# Altium footprint library PcbLib1.PcbLib: 36 footprints (part 2 of 3)
Each footprint in its own frame and in the unit in brackets; x right, y up, seen from the top. Pads: shape width x height; smd on the part's side, far side on the other; paste and mask are expansions set on the pad; w line width, h text height; cw(c..) or ccw(c..) is an arc to the next point about the centre after c.
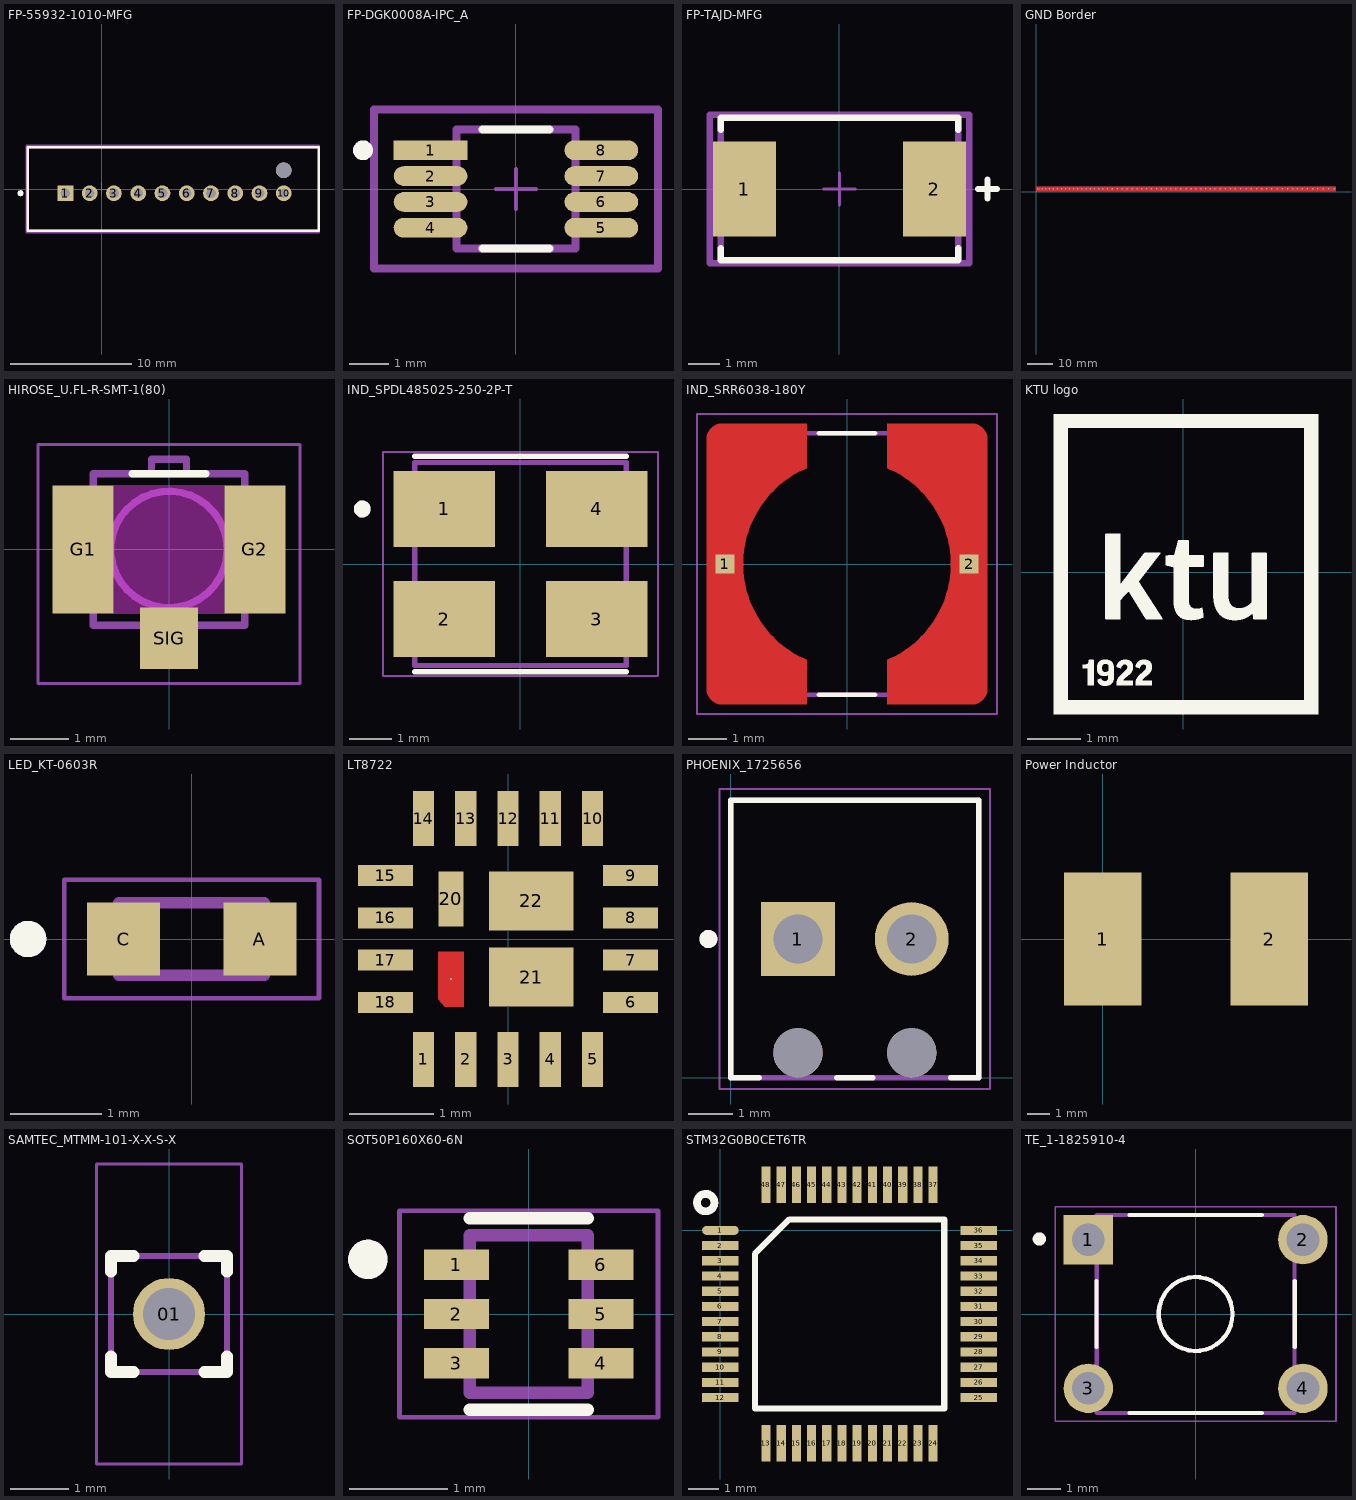
[diagram p1: the footprints below, top view; thin cyan lines are the x and y axes]

## FP-55932-1010-MFG [mm]
pads (11):
  rect 1.3x1.3 hole 0.8 paste-2539.97 mask+0: 1(-3,-0.35)
  round 1.3 hole 0.8 paste-2539.97 mask+0: 2(-1,-0.35) 3(1,-0.35) 4(3,-0.35) 5(5,-0.35) 6(7,-0.35) 7(9,-0.35) 8(11,-0.35) 9(13,-0.35) 10(15,-0.35)
  round 1.3 hole 1.3 unplated paste-2539.97 mask+0: ""(15,1.55)
Top Overlay:
  circle w0.25: c-6.7,-0.35 r0.125
  lines w0.2: -6.1,-3.45 -6.1,3.45 17.9,3.45 17.9,-3.45 -6.1,-3.45
Top 3D Body:
  lines w0.2: -6.1,-3.45 -6.1,3.45 17.907,3.45 17.907,-3.45 -6.1,-3.45
Top Courtyard:
  lines w0.2: -6.2,-3.55 -6.2,3.55 17.907,3.55 17.907,-3.55 -6.2,-3.55
Top Assembly:
  lines w0.2: -6.2,-3.55 -6.2,3.55 17.907,3.55 17.907,-3.55 -6.2,-3.55
  text ".Designator" at 0,0.188 h1
Top Component Center:
  lines w0.1: -0.5,0 0.5,0 ; 0,-0.5 0,0.5

## FP-DGK0008A-IPC_A [mm]
pads (8):
  rect 1.857x0.498 smd paste+0 mask+0: 1(-2.151,0.975)
  rrect100% 1.857x0.498 smd paste+0 mask+0: 2(-2.151,0.325) 3(-2.151,-0.325) 4(-2.151,-0.975) 5(2.151,-0.975) 6(2.151,-0.325) 7(2.151,0.325) 8(2.151,0.975)
Top Overlay:
  circle w0.25: c-3.854,0.975 r0.125
  lines w0.2: -0.848,-1.5 0.848,-1.5 ; -0.848,1.5 0.848,1.5
Top 3D Body:
  lines w0.2: -1.5,-1.5 -1.5,1.5 1.5,1.5 1.5,-1.5 -1.5,-1.5
Top Courtyard:
  lines w0.2: -3.579,-2 -3.579,2 3.579,2 3.579,-2 -3.579,-2
Top Assembly:
  lines w0.2: -3.579,-2 -3.579,2 3.579,2 3.579,-2 -3.579,-2
  text ".Designator" at 0,0.188 h1
Top Component Center:
  lines w0.1: -0.5,0 0.5,0 ; 0,-0.5 0,0.5
3D body "IC_Texas_Instruments_TCA9803DGKR_eec.STEP": height 0.25, standoff 0, extent -3.579,-2 3.579,2

## FP-TAJD-MFG [mm]
pads (2):
  rect 2x3 smd paste+0 mask+0: 1(-3,0) 2(3,0)
Top Overlay:
  lines w0.2: -3.75,-1.875 -3.75,-2.25 3.75,-2.25 3.75,-1.875 ; -3.75,1.875 -3.75,2.25 3.75,2.25 3.75,1.875 ; 4.375,0 4.975,0 ; 4.675,-0.3 4.675,0.3
Top 3D Body:
  lines w0.2: -3.75,-2.25 3.75,-2.25 3.75,2.25 -3.75,2.25 -3.75,-2.25
Top Courtyard:
  lines w0.2: -4.1,-2.35 4.1,-2.35 4.1,2.35 -4.1,2.35 -4.1,-2.35
Top Assembly:
  lines w0.2: -4.1,-2.35 4.1,-2.35 4.1,2.35 -4.1,2.35 -4.1,-2.35
  text ".Designator" at 0,0 h1
Top Component Center:
  lines w0.1: -0.5,0 0.5,0 ; 0,-0.5 0,0.5
3D body "Cap_AVX_TAJD108K004RNJ_eec.STEP": height 0.25, standoff 0, extent -4.1,-2.35 4.1,2.35

## GND Border [mil]
pads (1):
  rect 5x5 smd: 0(60,40)
via 30,40 diameter 23.62 hole 11.81
via 95,40 diameter 23.62 hole 11.81
via 155,40 diameter 23.62 hole 11.81
via 210,40 diameter 23.62 hole 11.81
via 270,40 diameter 23.62 hole 11.81
via 335,40 diameter 23.62 hole 11.81
via 400,40 diameter 23.62 hole 11.81
via 465,40 diameter 23.62 hole 11.81
via 525,40 diameter 23.62 hole 11.81
via 590,40 diameter 23.62 hole 11.81
via 655,40 diameter 23.62 hole 11.81
via 720,40 diameter 23.62 hole 11.81
via 785,40 diameter 23.62 hole 11.81
via 850,40 diameter 23.62 hole 11.81
via 915,40 diameter 23.62 hole 11.81
via 985,40 diameter 23.62 hole 11.81
via 1050,40 diameter 23.62 hole 11.81
via 1120,40 diameter 23.62 hole 11.81
via 1195,40 diameter 23.62 hole 11.81
via 1275,40 diameter 23.62 hole 11.81
via 1350,40 diameter 23.62 hole 11.81
via 1430,40 diameter 23.62 hole 11.81
via 1510,40 diameter 23.62 hole 11.81
via 1585,40 diameter 23.62 hole 11.81
via 1660,40 diameter 23.62 hole 11.81
via 1730,40 diameter 23.62 hole 11.81
via 1810,40 diameter 23.62 hole 11.81
via 1890,40 diameter 23.62 hole 11.81
via 1965,40 diameter 23.62 hole 11.81
via 2040,40 diameter 23.62 hole 11.81
via 2115,40 diameter 23.62 hole 11.81
via 2195,40 diameter 23.62 hole 11.81
via 2270,40 diameter 23.62 hole 11.81
via 2355,40 diameter 23.62 hole 11.81
via 2435,40 diameter 23.62 hole 11.81
via 2505,40 diameter 23.62 hole 11.81
via 2585,40 diameter 23.62 hole 11.81
via 2660,40 diameter 23.62 hole 11.81
via 2730,40 diameter 23.62 hole 11.81
via 2805,40 diameter 23.62 hole 11.81
via 2890,40 diameter 23.62 hole 11.81
via 2970,40 diameter 23.62 hole 11.81
via 3050,40 diameter 23.62 hole 11.81
via 3125,40 diameter 23.62 hole 11.81
via 3210,40 diameter 23.62 hole 11.81
via 3295,40 diameter 23.62 hole 11.81
via 3375,40 diameter 23.62 hole 11.81
via 3460,40 diameter 23.62 hole 11.81
via 3540,40 diameter 23.62 hole 11.81
via 3615,40 diameter 23.62 hole 11.81
via 3695,40 diameter 23.62 hole 11.81
via 3780,40 diameter 23.62 hole 11.81
via 3865,40 diameter 23.62 hole 11.81
via 3945,40 diameter 23.62 hole 11.81
via 4030,40 diameter 23.62 hole 11.81
via 4100,40 diameter 23.62 hole 11.81
via 4175,40 diameter 23.62 hole 11.81
via 4255,40 diameter 23.62 hole 11.81
via 4340,40 diameter 23.62 hole 11.81
via 4415,40 diameter 23.62 hole 11.81
via 4505,40 diameter 23.62 hole 11.81
via 4590,40 diameter 23.62 hole 11.81
via 4675,40 diameter 23.62 hole 11.81
Top Layer:
  rectangle: 0,0 4704.72,78.74
Bottom Layer:
  rectangle: 0,0 4704.72,78.74

## HIROSE_U.FL-R-SMT-1(80) [mm]
height 1.45
pads (3):
  rect 1.05x2.2 smd paste-2: G1(-1.475,0) G2(1.475,0)
  rect 1x1.05 smd paste-0.1: SIG(0,-1.525)
Top Overlay:
  lines w0.127: -0.63,1.3 0.63,1.3
Top Paste:
  region: 1.95,-1 1.05,-1 1.05,1 1.95,1
  region: -1.05,-1 -1.95,-1 -1.95,1 -1.05,1
Keep-Out Layer:
  region: 0.95,-1.1 0.5,-1.1 0.5,-1 -0.5,-1 -0.5,-1.1 -0.95,-1.1 -0.95,1.1 0.95,1.1
Mechanical 13:
  circle w0.127: c0,0 r1
  lines w0.127: -0.3,1.3 -0.3,1.55 0.3,1.55 0.3,1.3 ; -0.3,1.3 0.3,1.3 ; -0.3,1.3 -1.3,1.3 -1.3,-1.3 1.3,-1.3 1.3,1.3 0.3,1.3
Mechanical 15:
  lines w0.05: -2.25,-2.3 -2.25,1.8 2.25,1.8 2.25,-2.3 -2.25,-2.3
3D body "step_temp.STEP": height 22.5, standoff 21.25, extent -1.5,-1.576 1.5,1.524

## IND_SPDL485025-250-2P-T [mm]
height 2.5
pads (4):
  rect 2.4x1.8 smd: 1(-1.8,1.3) 2(-1.8,-1.3) 3(1.8,-1.3) 4(1.8,1.3)
Top Overlay:
  circle w0.2: c-3.74,1.3 r0.1
  lines w0.127: -2.5,-2.55 2.5,-2.55 ; -2.5,2.55 2.5,2.55
Mechanical 13:
  circle w0.2: c-3.74,1.3 r0.1
  lines w0.127: -2.5,-2.4 -2.5,2.4 2.5,2.4 2.5,-2.4 -2.5,-2.4
Mechanical 15:
  lines w0.05: -3.25,-2.65 3.25,-2.65 3.25,2.65 -3.25,2.65 -3.25,-2.65

## IND_SRR6038-180Y [mm]
height 4
pads (2):
  rect 0.5x0.5 smd paste-1 mask+0: 1(-3.175,0) 2(3.175,0)
Top Layer:
  region: 3.271,3.649 3.292,3.648 3.313,3.645 3.333,3.641 3.354,3.636 3.374,3.63 3.393,3.623 3.413,3.615 3.432,3.606 3.45,3.596 3.468,3.585 3.485,3.574 3.502,3.561 3.518,3.547 3.533,3.533 3.547,3.518 3.561,3.502 3.574,3.485 3.585,3.468 3.596,3.45 3.606,3.432 3.615,3.413 3.623,3.393 3.63,3.374 3.636,3.354 3.641,3.333 3.645,3.313 3.648,3.292 3.649,3.271 3.65,3.25 3.65,-3.25 3.649,-3.271 3.648,-3.292 3.645,-3.313 3.641,-3.333 3.636,-3.354 3.63,-3.374 3.623,-3.393 3.615,-3.413 3.606,-3.432 3.596,-3.45 3.585,-3.468 3.574,-3.485 3.561,-3.502 3.547,-3.518 3.533,-3.533 3.518,-3.547 3.502,-3.561 3.485,-3.574 3.468,-3.585 3.45,-3.596 3.432,-3.606 3.413,-3.615 3.393,-3.623 3.374,-3.63 3.354,-3.636 3.333,-3.641 3.313,-3.645 3.292,-3.648 3.271,-3.649 3.25,-3.65 1.05,-3.65 1.05,-2.488 1.155,-2.441 1.249,-2.395 1.341,-2.345 1.431,-2.291 1.519,-2.234 1.605,-2.173 1.688,-2.109 1.769,-2.042 1.847,-1.972 1.922,-1.898 1.994,-1.822 2.064,-1.743 2.13,-1.662 2.193,-1.578 2.253,-1.491 2.309,-1.403 2.361,-1.312 2.411,-1.219 2.456,-1.125 2.498,-1.028 2.536,-0.93 2.57,-0.831 2.6,-0.731 2.627,-0.629 2.649,-0.526 2.667,-0.423 2.682,-0.319 2.692,-0.214 2.698,-0.11 2.7,0 2.698,0.11 2.692,0.214 2.682,0.319 2.667,0.423 2.649,0.526 2.627,0.629 2.6,0.731 2.57,0.831 2.536,0.93 2.498,1.028 2.456,1.125 2.411,1.219 2.361,1.312 2.309,1.403 2.253,1.491 2.193,1.578 2.13,1.662 2.064,1.743 1.994,1.822 1.922,1.898 1.847,1.972 1.769,2.042 1.688,2.109 1.605,2.173 1.519,2.234 1.431,2.291 1.341,2.345 1.249,2.395 1.155,2.441 1.05,2.488 1.05,3.65 3.25,3.65
  region: -1.05,2.488 -1.155,2.441 -1.249,2.395 -1.341,2.345 -1.431,2.291 -1.519,2.234 -1.605,2.173 -1.688,2.109 -1.769,2.042 -1.847,1.972 -1.922,1.898 -1.994,1.822 -2.064,1.743 -2.13,1.662 -2.193,1.578 -2.253,1.491 -2.309,1.403 -2.361,1.312 -2.411,1.219 -2.456,1.125 -2.498,1.028 -2.536,0.93 -2.57,0.831 -2.6,0.731 -2.627,0.629 -2.649,0.526 -2.667,0.423 -2.682,0.319 -2.692,0.214 -2.698,0.11 -2.7,0 -2.698,-0.11 -2.692,-0.214 -2.682,-0.319 -2.667,-0.423 -2.649,-0.526 -2.627,-0.629 -2.6,-0.731 -2.57,-0.831 -2.536,-0.93 -2.498,-1.028 -2.456,-1.125 -2.411,-1.219 -2.361,-1.312 -2.309,-1.403 -2.253,-1.491 -2.193,-1.578 -2.13,-1.662 -2.064,-1.743 -1.994,-1.822 -1.922,-1.898 -1.847,-1.972 -1.769,-2.042 -1.688,-2.109 -1.605,-2.173 -1.519,-2.234 -1.431,-2.291 -1.341,-2.345 -1.249,-2.395 -1.155,-2.441 -1.05,-2.488 -1.05,-3.65 -3.25,-3.65 -3.271,-3.649 -3.292,-3.648 -3.313,-3.645 -3.333,-3.641 -3.354,-3.636 -3.374,-3.63 -3.393,-3.623 -3.413,-3.615 -3.432,-3.606 -3.45,-3.596 -3.468,-3.585 -3.485,-3.574 -3.502,-3.561 -3.518,-3.547 -3.533,-3.533 -3.547,-3.518 -3.561,-3.502 -3.574,-3.485 -3.585,-3.468 -3.596,-3.45 -3.606,-3.432 -3.615,-3.413 -3.623,-3.393 -3.63,-3.374 -3.636,-3.354 -3.641,-3.333 -3.645,-3.313 -3.648,-3.292 -3.649,-3.271 -3.65,-3.25 -3.65,3.25 -3.649,3.271 -3.648,3.292 -3.645,3.313 -3.641,3.333 -3.636,3.354 -3.63,3.374 -3.623,3.393 -3.615,3.413 -3.606,3.432 -3.596,3.45 -3.585,3.468 -3.574,3.485 -3.561,3.502 -3.547,3.518 -3.533,3.533 -3.518,3.547 -3.502,3.561 -3.485,3.574 -3.468,3.585 -3.45,3.596 -3.432,3.606 -3.413,3.615 -3.393,3.623 -3.374,3.63 -3.354,3.636 -3.333,3.641 -3.313,3.645 -3.292,3.648 -3.271,3.649 -3.25,3.65 -1.05,3.65
Top Overlay:
  lines w0.127: -0.73,-3.4 0.73,-3.4 ; -0.73,3.4 0.73,3.4
Top Paste:
  drawing of 2 lines, arcs and shapes, not listed
Top Solder:
  drawing of 2 lines, arcs and shapes, not listed
Mechanical 13:
  lines w0.127: -3.4,-3.4 -3.4,3.4 3.4,3.4 3.4,-3.4 -3.4,-3.4
Mechanical 15:
  lines w0.05: -3.9,-3.9 -3.9,3.9 3.9,3.9 3.9,-3.9 -3.9,-3.9
3D body "step_temp.STEP": height 4, standoff 0, extent -3.4,-3.4 3.4,3.4

## KTU logo [mm]
Top Overlay:
  drawing of 8 lines, arcs and shapes, not listed

## LED_KT-0603R [mm]
height 0.65
pads (2):
  rect 0.8x0.8 smd: A(0.75,0) C(-0.75,0)
Top Overlay:
  circle w0.2: c-1.8,0 r0.1
Mechanical 13:
  circle w0.2: c-1.8,0 r0.1
  lines w0.127: -0.8,-0.4 0.8,-0.4 0.8,0.4 -0.8,0.4 -0.8,-0.4
Mechanical 15:
  lines w0.05: -1.4,-0.65 1.4,-0.65 1.4,0.65 -1.4,0.65 -1.4,-0.65
3D body "step_temp.STEP": height 0.65, standoff 0, extent -0.8,-0.4 0.8,0.4

## LT8722 [mm]
pads (22):
  rect 0.25x0.65 smd mask+0: 1(-1,-1.425) 2(-0.5,-1.425) 3(0,-1.425) 4(0.5,-1.425) 5(1,-1.425) 10(1,1.425) 11(0.5,1.425) 12(0,1.425) 13(-0.5,1.425) 14(-1,1.425)
  rect 0.65x0.25 smd mask+0: 6(1.45,-0.75) 7(1.45,-0.25) 8(1.45,0.25) 9(1.45,0.75) 15(-1.45,0.75) 16(-1.45,0.25) 17(-1.45,-0.25) 18(-1.45,-0.75)
  round 0.025 smd mask+0: 19(-0.675,-0.475)
  rect 0.3x0.65 smd mask+0: 20(-0.675,0.475)
  rect 1x0.7 smd mask+0: 21(0.275,-0.45) 22(0.275,0.45)
Top Layer:
  region: -0.825,-0.15 -0.525,-0.15 -0.525,-0.8 -0.75,-0.8 -0.825,-0.711

## PHOENIX_1725656 [mm]
height 8.65
pads (4):
  rect 1.65x1.65 / inner round 1.65 / far side rect 1.65x1.65 hole 1.1: 1(1.5,3.1)
  round 1.65 hole 1.1: 2(4.04,3.1)
  round 1.1 hole 1.1 unplated: ""(1.5,0.56) ""(4.04,0.56)
Top Overlay:
  circle w0.2: c-0.5,3.1 r0.1
  lines w0.127: 0.63,0 0,0 0,6.2 5.54,6.2 5.54,0 4.91,0 ; 2.37,0 3.17,0
Mechanical 13:
  circle w0.2: c-0.5,3.1 r0.1
  lines w0.127: 0,0 0,6.2 5.54,6.2 5.54,0 0,0
Mechanical 15:
  lines w0.05: -0.25,-0.25 -0.25,6.45 5.79,6.45 5.79,-0.25 -0.25,-0.25
3D body "step_temp.STEP": height 8.65, standoff -3.7, extent 0,0 5.54,6.2

## Power Inductor [mm] "Universal_Pad_Size"
pads (2):
  rect 3.5x6 smd mask+0: 1(0,0) 2(7.5,0)

## SAMTEC_MTMM-101-X-X-S-X [mm]
pads (1):
  round 1.24 hole 0.89: 01(0,0)
Top Overlay:
  lines w0.2: -1,-0.73 -1,-1 -0.605,-1 ; -1,0.73 -1,1 -0.605,1 ; 0.605,-1 1,-1 1,-0.73 ; 0.605,1 1,1 1,0.73
Top Paste:
  region: 0.255,0.38 0.815,0.38 0.815,-0.38 0.255,-0.38 0.255,-2.335 -0.255,-2.335 -0.255,-0.38 -0.815,-0.38 -0.815,0.38 -0.255,0.38 -0.255,2.335 0.255,2.335
Mechanical 13:
  lines w0.1: -1,-1 1,-1 1,1 -1,1 -1,-1
Mechanical 15:
  lines w0.05: -1.25,-2.585 1.25,-2.585 1.25,2.585 -1.25,2.585 -1.25,-2.585

## SOT50P160X60-6N [mm]
pads (6):
  rect 0.66x0.31 smd: 1(-0.735,0.5) 2(-0.735,0) 3(-0.735,-0.5) 4(0.735,-0.5) 5(0.735,0) 6(0.735,0.5)
Top Overlay:
  circle w0.2: c-1.635,0.555 r0.1
  lines w0.127: -0.6,-0.975 0.6,-0.975 ; -0.6,0.975 0.6,0.975
Mechanical 13:
  circle w0.2: c-1.635,0.555 r0.1
  lines w0.127: -0.6,-0.8 0.6,-0.8 0.6,0.8 -0.6,0.8 -0.6,-0.8
Mechanical 15:
  lines w0.05: -1.315,-1.05 -1.315,1.05 1.315,1.05 1.315,-1.05 -1.315,-1.05

## STM32G0B0CET6TR [mm]
pads (48):
  oval 1.2x0.3 smd: 1(0,0)
  rect 1.2x0.3 smd: 2(0,-0.5) 3(0,-1) 4(0,-1.5) 5(0,-2) 6(0,-2.5) 7(0,-3) 8(0,-3.5) 9(0,-4) 10(0,-4.5) 11(0,-5) 12(0,-5.5) 25(8.5,-5.5) 26(8.5,-5) 27(8.5,-4.5) 28(8.5,-4) 29(8.5,-3.5) 30(8.5,-3) 31(8.5,-2.5) 32(8.5,-2) 33(8.5,-1.5) 34(8.5,-1) 35(8.5,-0.5) 36(8.5,0)
  rect 0.3x1.2 smd: 13(1.5,-7) 14(2,-7) 15(2.5,-7) 16(3,-7) 17(3.5,-7) 18(4,-7) 19(4.5,-7) 20(5,-7) 21(5.5,-7) 22(6,-7) 23(6.5,-7) 24(7,-7) 37(7,1.5) 38(6.5,1.5) 39(6,1.5) 40(5.5,1.5) 41(5,1.5) 42(4.5,1.5) 43(4,1.5) 44(3.5,1.5) 45(3,1.5) 46(2.5,1.5) 47(2,1.5) 48(1.5,1.5)
Top Overlay:
  lines w0.2: 1.135,-5.865 7.365,-5.865 7.365,0.365 2.27,0.365 1.135,-0.77 1.135,-5.865
  lines w0.254: -0.199,0.867 cw(c-0.483,0.914) -0.195,0.914

## TE_1-1825910-4 [mm]
pads (4):
  rect 1.498x1.498 hole 0.99: 1(-3.25,2.25)
  round 1.498 hole 0.99: 2(3.25,2.25) 3(-3.25,-2.25) 4(3.25,-2.25)
Top Overlay:
  circle w0.2: c-4.733,2.271 r0.1
  circle w0.127: c0,0 r1.118
  lines w0.127: -3,-1 -3,1 ; -2,-3 2,-3 ; -2,3 2,3 ; 3,-1 3,1
Mechanical 13:
  circle w0.127: c0,0 r1.118
  lines w0.127: -2.995,-2.995 2.995,-2.995 2.995,2.995 -2.995,2.995 -2.995,-2.995
Mechanical 15:
  lines w0.05: -4.25,-3.25 4.25,-3.25 4.25,3.25 -4.25,3.25 -4.25,-3.25